# Altium footprint library ESP32-HWE-Uno.PcbLib: 5 footprints
Each footprint in its own frame and in the unit in brackets; x right, y up, seen from the top. Pads: shape width x height; smd on the part's side, far side on the other; paste and mask are expansions set on the pad; w line width, h text height; cw(c..) or ccw(c..) is an arc to the next point about the centre after c.
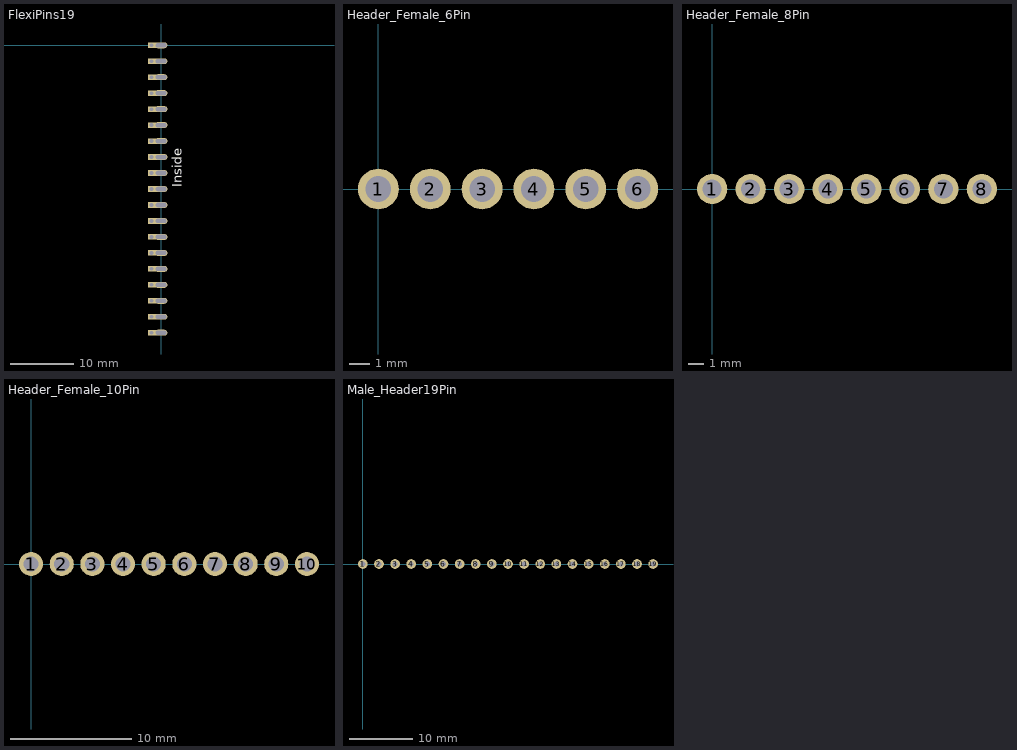
[diagram p0: the footprints below, top view; thin cyan lines are the x and y axes]

## FlexiPins19 [mm]
pads (38):
  rect 1.5x0.9 hole 0.6 copper offset 0.2,0: 1(-1.55,0) 2(-1.55,-2.54) 3(-1.55,-5.08) 4(-1.55,-7.62) 5(-1.55,-10.16) 6(-1.55,-12.7) 7(-1.55,-15.24) 8(-1.55,-17.78) 9(-1.55,-20.32) 10(-1.55,-22.86) 11(-1.55,-25.4) 12(-1.55,-27.94) 13(-1.55,-30.48) 14(-1.55,-33.02) 15(-1.55,-35.56) 16(-1.55,-38.1) 17(-1.55,-40.64) 18(-1.55,-43.18) 19(-1.55,-45.72)
  oval 2x0.95 hole 0.65 slot 1.7 at 0 deg: 1(0,0) 2(0,-2.54) 3(0,-5.08) 4(0,-7.62) 5(0,-10.16) 6(0,-12.7) 7(0,-15.24) 8(0,-17.78) 9(0,-20.32) 10(0,-22.86) 11(0,-25.4) 12(0,-27.94) 13(0,-30.48) 14(0,-33.02) 15(0,-35.56) 16(0,-38.1) 17(0,-40.64) 18(0,-43.18) 19(0,-45.72)
Top Overlay:
  text "Inside" at 3.276,-22.606 h1.52
3D body "flexypin.step": height 4.07, standoff -6.32, extent -3.593,-45.92 0.872,-45.52
3D body "flexypin.step": height 4.07, standoff -6.32, extent -3.593,-43.38 0.872,-42.98
3D body "flexypin.step": height 4.07, standoff -6.32, extent -3.593,-40.84 0.872,-40.44
3D body "flexypin.step": height 4.07, standoff -6.32, extent -3.593,-38.3 0.872,-37.9
3D body "flexypin.step": height 4.07, standoff -6.32, extent -3.593,-35.76 0.872,-35.36
3D body "flexypin.step": height 4.07, standoff -6.32, extent -3.593,-33.22 0.872,-32.82
3D body "flexypin.step": height 4.07, standoff -6.32, extent -3.593,-30.68 0.872,-30.28
3D body "flexypin.step": height 4.07, standoff -6.32, extent -3.593,-28.14 0.872,-27.74
3D body "flexypin.step": height 4.07, standoff -6.32, extent -3.593,-25.6 0.872,-25.2
3D body "flexypin.step": height 4.07, standoff -6.32, extent -3.593,-23.06 0.872,-22.66
3D body "flexypin.step": height 4.07, standoff -6.32, extent -3.593,-20.52 0.872,-20.12
3D body "flexypin.step": height 4.07, standoff -6.32, extent -3.593,-17.98 0.872,-17.58
3D body "flexypin.step": height 4.07, standoff -6.32, extent -3.593,-15.44 0.872,-15.04
3D body "flexypin.step": height 4.07, standoff -6.32, extent -3.593,-12.9 0.872,-12.5
3D body "flexypin.step": height 4.07, standoff -6.32, extent -3.593,-10.36 0.872,-9.96
3D body "flexypin.step": height 4.07, standoff -6.32, extent -3.593,-7.82 0.872,-7.42
3D body "flexypin.step": height 4.07, standoff -6.32, extent -3.593,-5.28 0.872,-4.88
3D body "flexypin.step": height 4.07, standoff -6.32, extent -3.593,-2.74 0.872,-2.34
3D body "flexypin.step": height 4.07, standoff -6.32, extent -3.593,-0.2 0.872,0.2

## Header_Female_6Pin [mm]
pads (6):
  round 2 hole 1.25: 1(0,0) 2(2.54,0) 3(5.08,0) 4(7.62,0) 5(10.16,0) 6(12.7,0)
3D body "61300611821.stp": height 8.65, standoff -3.25, extent -1.52,-1.25 14.22,1.25

## Header_Female_8Pin [mm]
pads (8):
  round 2 hole 1.25: 1(0,0) 2(2.54,0) 3(5.08,0) 4(7.62,0) 5(10.16,0) 6(12.7,0) 7(15.24,0) 8(17.78,0)
3D body "SSQ-108-03-G-S.stp": height 8.51, standoff -10, extent -1.525,-1.205 19.305,1.205

## Header_Female_10Pin [mm]
pads (10):
  round 2 hole 1.25: 1(0,0) 2(2.54,0) 3(5.08,0) 4(7.62,0) 5(10.16,0) 6(12.7,0) 7(15.24,0) 8(17.78,0) 9(20.32,0) 10(22.86,0)
3D body "61301011821.stp": height 8.5, standoff -3.1, extent -1.52,-1.25 24.38,1.25

## Male_Header19Pin [mil]
pads (19):
  round 60 hole 30: 1(0,0) 2(100,0) 3(200,0) 4(300,0) 5(400,0) 6(500,0) 7(600,0) 8(700,0) 9(800,0) 10(900,0) 11(1000,0) 12(1100,0) 13(1200,0) 14(1300,0) 15(1400,0) 16(1500,0) 17(1600,0) 18(1700,0) 19(1800,0)
3D body "Pin Header 1x1 TH Pitch 2.54mm.stp": height 373.85, standoff -125.98, extent -50,-50 50,50
3D body "Pin Header 1x1 TH Pitch 2.54mm.stp": height 373.85, standoff -125.98, extent 50,-50 150,50
3D body "Pin Header 1x1 TH Pitch 2.54mm.stp": height 373.85, standoff -125.98, extent 150,-50 250,50
3D body "Pin Header 1x1 TH Pitch 2.54mm.stp": height 373.85, standoff -125.98, extent 250,-50 350,50
3D body "Pin Header 1x1 TH Pitch 2.54mm.stp": height 373.85, standoff -125.98, extent 350,-50 450,50
3D body "Pin Header 1x1 TH Pitch 2.54mm.stp": height 373.85, standoff -125.98, extent 450,-50 550,50
3D body "Pin Header 1x1 TH Pitch 2.54mm.stp": height 373.85, standoff -125.98, extent 550,-50 650,50
3D body "Pin Header 1x1 TH Pitch 2.54mm.stp": height 373.85, standoff -125.98, extent 650,-50 750,50
3D body "Pin Header 1x1 TH Pitch 2.54mm.stp": height 373.85, standoff -125.98, extent 750,-50 850,50
3D body "Pin Header 1x1 TH Pitch 2.54mm.stp": height 373.85, standoff -125.98, extent 850,-50 950,50
3D body "Pin Header 1x1 TH Pitch 2.54mm.stp": height 373.85, standoff -125.98, extent 950,-50 1050,50
3D body "Pin Header 1x1 TH Pitch 2.54mm.stp": height 373.85, standoff -125.98, extent 1050,-50 1150,50
3D body "Pin Header 1x1 TH Pitch 2.54mm.stp": height 373.85, standoff -125.98, extent 1150,-50 1250,50
3D body "Pin Header 1x1 TH Pitch 2.54mm.stp": height 373.85, standoff -125.98, extent 1250,-50 1350,50
3D body "Pin Header 1x1 TH Pitch 2.54mm.stp": height 373.85, standoff -125.98, extent 1350,-50 1450,50
3D body "Pin Header 1x1 TH Pitch 2.54mm.stp": height 373.85, standoff -125.98, extent 1450,-50 1550,50
3D body "Pin Header 1x1 TH Pitch 2.54mm.stp": height 373.85, standoff -125.98, extent 1550,-50 1650,50
3D body "Pin Header 1x1 TH Pitch 2.54mm.stp": height 373.85, standoff -125.98, extent 1650,-50 1750,50
3D body "Pin Header 1x1 TH Pitch 2.54mm.stp": height 373.85, standoff -125.98, extent 1750,-50 1850,50